# EAGLE library part S4301B (library EW_LCD_display)
Single Digit Seven-Segment Display (cathode common) Source: LITEON .. S4301B.pdf
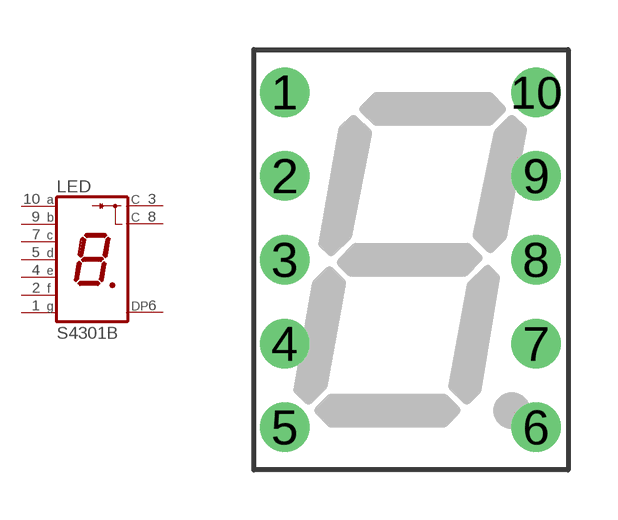
[diagram p42: symbol with the pads of S4301B; footprint S4301B]

Designator prefix LED

## S4301B (OC_FARNELL: unknown; OC_NEWARK: unknown)  [S4301B]
1  G  pas
2  F  pas
3  C  pas
4  E  pas
5  D  pas
6  DP  pas
7  C  pas
8  C  pas
9  B  pas
10  A  pas

## Footprint S4301B (pad centres in mm)
Single Digit LED Numeric Display Source: LITEON .. S4301B.pdf
drill 0.9 pad 1.5: 1 -3.81,5.08; 2 -3.81,2.54; 3 -3.81,0; 4 -3.81,-2.54; 5 -3.81,-5.08; 6 3.81,-5.08; 7 3.81,-2.54; 8 3.81,0; 9 3.81,2.54; 10 3.81,5.08